# EAGLE library part HEADER-2X5 (library EagleLibrary)
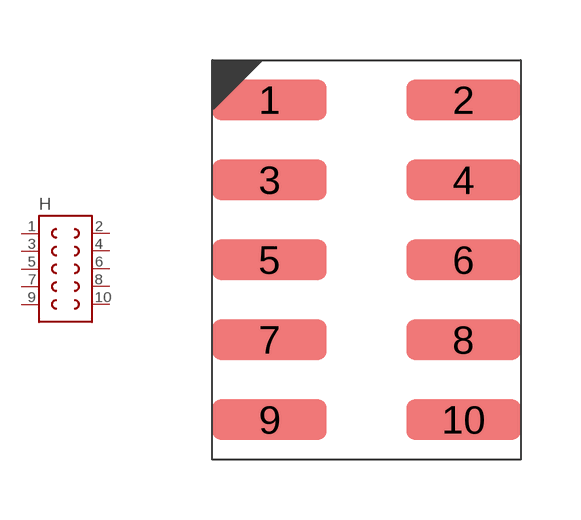
[diagram p40: symbol with the pads of TEC-1-2314844-0; footprint TEC-1-2314844-0]

Designator prefix H

## HEADER-2X5 (MFG: TE Connectivity; PN: 1-2314844-0)  [TEC-1-2314844-0]
1  1
2  2
3  3
4  4
5  5
6  6
7  7
8  8
9  9
10  10

## Footprint TEC-1-2314844-0 (pad centres in mm)
16-SOP, 0.64 mm pitch, 6.00 mm span, 4.91 X 3.90 X 1.75 mm body 16-pin SOP package with 0.64 mm pitch, 6.00 mm span with body size 4.91 X 3.90 X 1.75 mm
smd 2.85 x 1: 1 -2.425,4; 2 2.425,4; 3 -2.425,2; 4 2.425,2; 5 -2.425,0; 6 2.425,0; 7 -2.425,-2; 8 2.425,-2; 9 -2.425,-4; 10 2.425,-4